# EAGLE library part ANALOG,INST-AMP#1 (library QuantumOptics)
Instrumentation amp, R-gain set, such as AD8221 or LT1789-1/10.
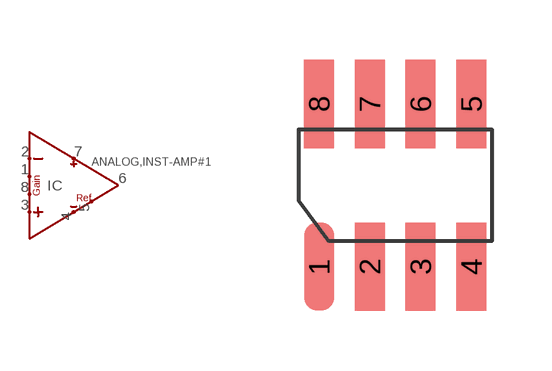
[diagram p67: symbol with the pads of SOIC-8; footprint SOIC-8]

Designator prefix IC

## ANALOG,INST-AMP#1-SOIC8_LT178X  [SOIC-8]
1  RG1  in
2  -IN  in
3  +IN  in
4  V-
5  REF
6  OUT  out
7  V+
8  RG2  in

## ANALOG,INST-AMP#1-SOIC8_AD8221  [SOIC-8]
1  -IN  in
2  RG1  in
3  RG2  in
4  +IN  in
5  V-
6  REF
7  OUT  out
8  V+

## Footprint SOIC-8 (pad centres in mm)
SOIC-8 (AKA SO-8), pads on 0.050" grid.
smd 0.75 x 2.2: 1 -1.905,-2.032; 2 -0.635,-2.032; 3 0.635,-2.032; 4 1.905,-2.032; 5 1.905,2.032; 6 0.635,2.032; 7 -0.635,2.032; 8 -1.905,2.032